# Altium integrated library Linear Technology Power Management Hot Swap Controllers.IntLib: 992 symbols (part 13 of 93)
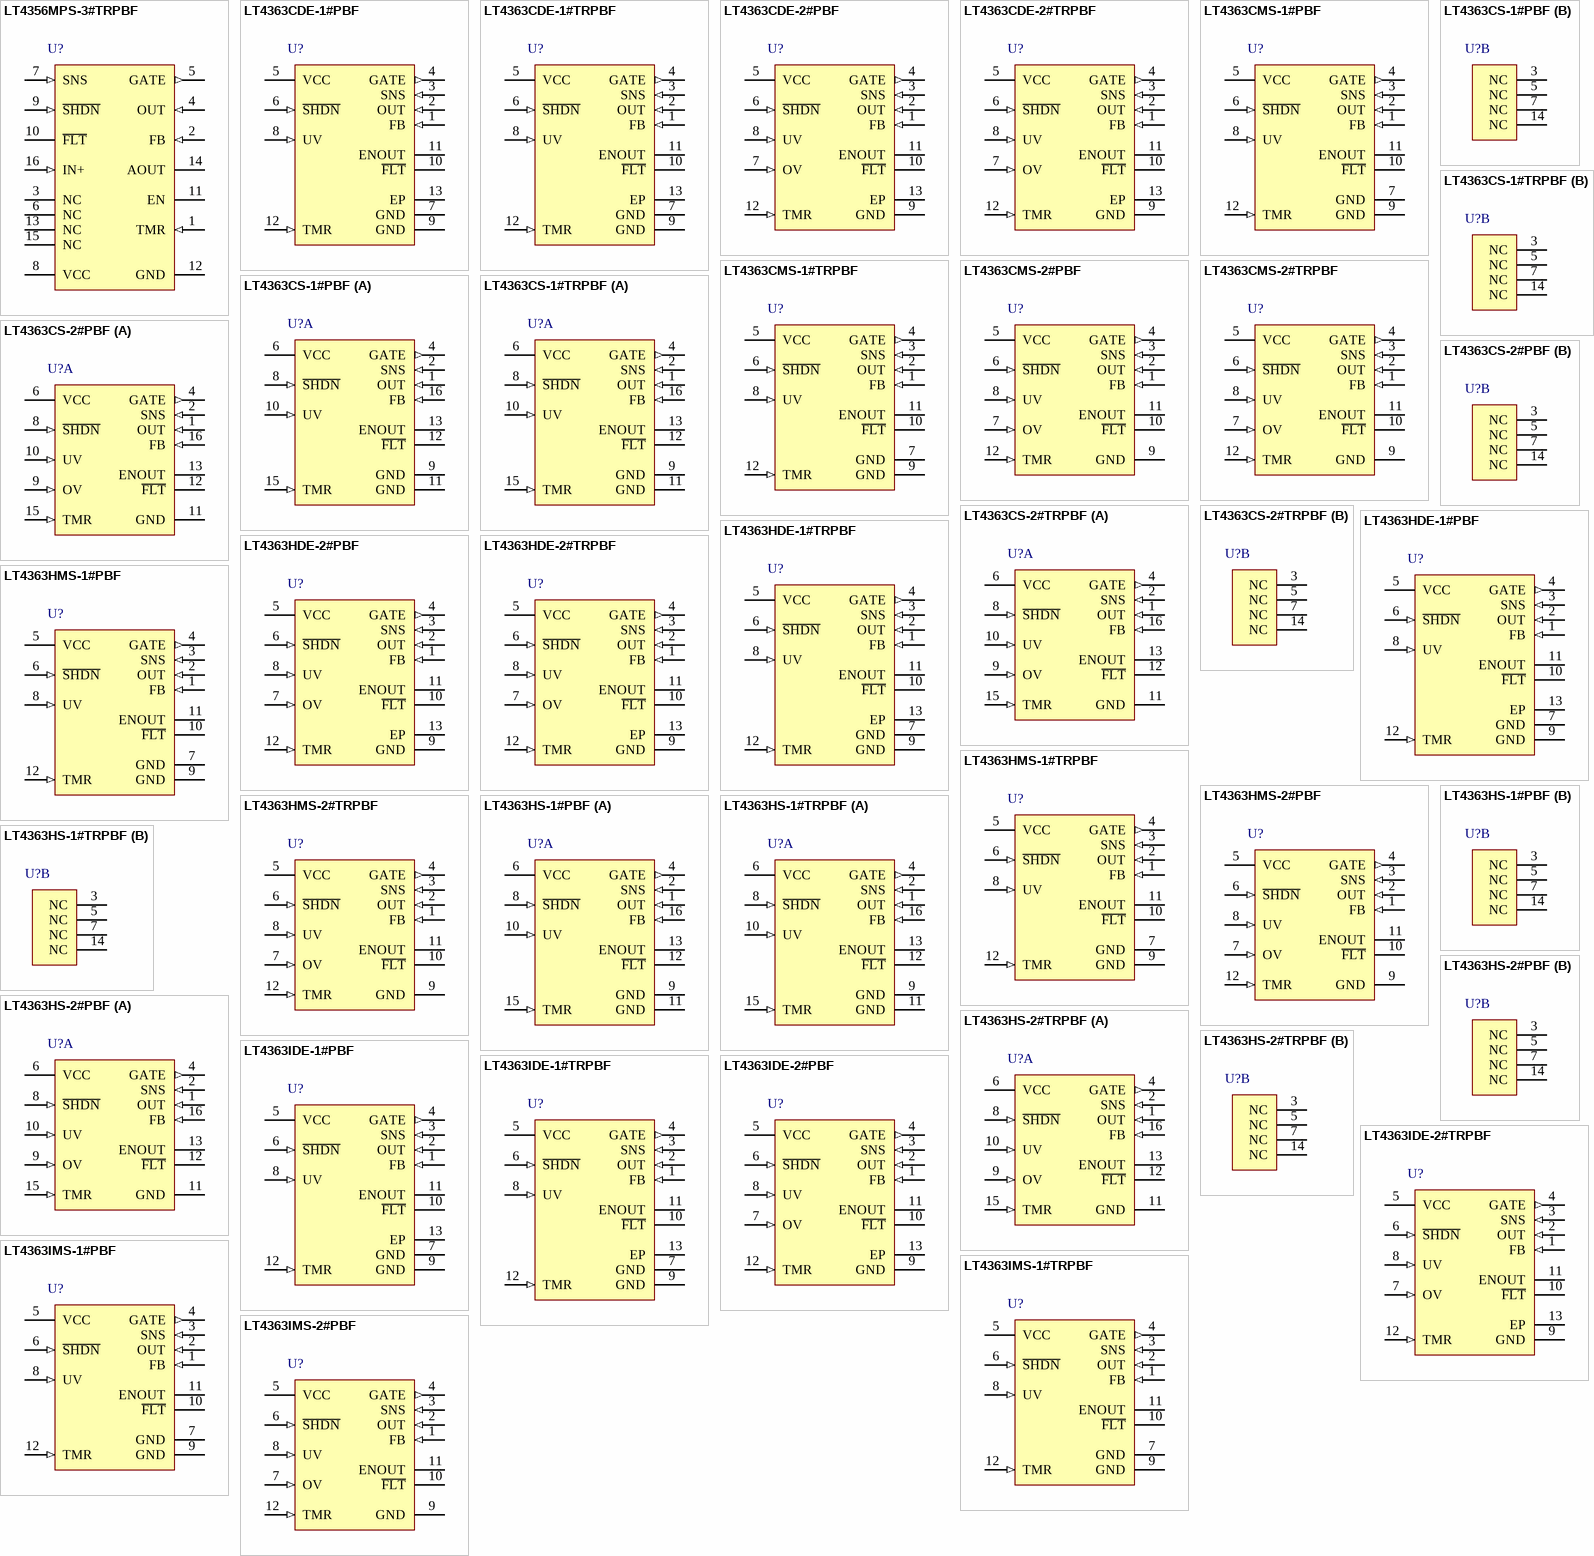
[diagram p49: symbols LT4356MPS-3#TRPBF to LT4363IMS-2#PBF]

## LT4363CMS-1#TRPBF
designator U?
High Voltage Surge Stopper with Current Limit, 4 to 80 V Vin, 12-pin SOP (MS-12), 0 to 70 degC, Pb-Free, Tape and Reel; Manufacturer: Linear Technology; PartNumber: LT4363CMS-1#TRPBF; Active Limiting: yes; Circuit Breaker Accuracy(%): 14; Circuit Breaker Threshold: 50 mV; Extended Temp: C, I, H, MP; Vin Range: 4 to 80 V; DatasheetVersion: Rev. B; PackageVersion: Rev. A, 05/2013; PackageReference: MS-12; PackageDescription: 12-Pin Plastic MSOP, Body 4.039 x 3 mm, Pitch 0.65 mm; Supplier 1: Digi-Key; Supplier Part Number 1: LT4363CMS-1#TRPBF-ND; Fast Comparator: yes; Fault: yes; Foldback: yes; Packing: Tape and Reel; RoHS: TRUE; Mounting Technology: Surface Mount; ComponentLink1Description: Manufacturer URL; ComponentLink1URL: http://www.linear.com/; ComponentLink2Description: Datasheet; ComponentLink2URL: http://cds.linear.com/docs/en/datasheet/4363fb.pdf; ComponentLink3Description: Package Specification; ComponentLink3URL: http://cds.linear.com/docs/en/packaging/05081668_A_MS12.pdf
footprint LT-MS-12_N (SOP, 12-Leads, Body 4.1x3.1mm, Pitch 0.65mm, IPC Medium Density)
footprint LT-MS-12_L (SOP, 12-Leads, Body 4.1x3.1mm, Pitch 0.65mm, IPC High Density)
footprint LT-MS-12_M (SOP, 12-Leads, Body 4.1x3.1mm, Pitch 0.65mm, IPC Low Density)
pins: 1 FB (in) "Voltage Regulator Feedback Input. Connect this pin to the center tap of the resistive divider connected between the OUT pin and ground. During an overvoltage condition, the GATE pin is controlled to maintain a 1.275V (See Datasheet)", 2 OUT (in) "Output Voltage Sense Input. This pin senses the voltage at the source of the external N-channel MOSFET. The voltage difference between VCC and OUT sets the fault timer current. When this difference drops below 0.5V, the EN (See Datasheet)", 3 SNS (in) "Current Sense Input. Connect this pin to the input of the current sense resistor. The current limit circuit controls the GATE pin to limit the sense voltage between SNS and OUT pins to 50mV. This is reduced to 25mV in a (See Datasheet)", 4 GATE (out) "N-Channel MOSFET Gate Drive Output. The GATE pin is pulled up by an internal charge pump current source to 13V above the OUT pin. A 14V protection clamp limits this voltage during faults. Both voltage and current amplifiers (See Datasheet)", 5 VCC (power) "Positive Supply Voltage Input. The positive supply input ranges from 4V to 80V for normal operation. It can also be pulled below ground by up to 60V during a reverse battery condition, without damaging the part. Shutting (See Datasheet)", 6 ~{SHDN} (in) "Shutdown Control Input. The LT4363 can be shutdown to a low current mode by pulling the S\H\D\N\ pin below the threshold of 0.4V. Pull this pin above 2.1V or disconnect it to allow the internal current source to turn the (See Datasheet)", 7 GND (power) "Device Ground.", 8 UV (in) "Undervoltage Comparator Input. When UV falls below its threshold of 1.275V, the GATE is pulled down with a 1mA current. When UV rises above 1.275V plus the hysteresis, the pull down current disappears and the GATE pin is (See Datasheet)", 9 GND (power) "Device Ground.", 10 ~{FLT} (hiz) "Open Collector Fault Output. This pin pulls low after the voltage at the TMR pin has reached the fault threshold of 1.275V. It indicates the pass transistor is about to turn off because either the supply voltage has stayed (See Datasheet)", 11 ENOUT (hiz) "Open Collector Enable Output. The ENOUT pin goes high impedance when the voltage at the OUT pin is within 0.5V of VCC and 3V above GND, indicating the external MOSFET is fully on. The state of the pin is latched until the (See Datasheet)", 12 TMR (in) "Fault Timer Input. Connect a capacitor between this pin and ground to set the times for early fault warning, fault turn-off, and cool down periods. The current charging up this pin during fault conditions depends on the (See Datasheet)"

## LT4363CMS-2#PBF
designator U?
High Voltage Surge Stopper with Current Limit, 4 to 80 V Vin, 12-pin SOP (MS-12), 0 to 70 degC, Pb-Free; Manufacturer: Linear Technology; PartNumber: LT4363CMS-2#PBF; Active Limiting: yes; Circuit Breaker Accuracy(%): 14; Circuit Breaker Threshold: 50 mV; Extended Temp: C, I, H, MP; Vin Range: 4 to 80 V; DatasheetVersion: Rev. B; PackageVersion: Rev. A, 05/2013; PackageReference: MS-12; PackageDescription: 12-Pin Plastic MSOP, Body 4.039 x 3 mm, Pitch 0.65 mm; Supplier 1: Digi-Key; Supplier Part Number 1: LT4363CMS-2#PBF-ND; Supplier 2: Farnell; Supplier Part Number 2: 2097926; Supplier 3: Newark; Supplier Part Number 3: 78T4092; Fast Comparator: yes; Fault: yes; Foldback: yes; RoHS: TRUE; Mounting Technology: Surface Mount; ComponentLink1Description: Manufacturer URL; ComponentLink1URL: http://www.linear.com/; ComponentLink2Description: Datasheet; ComponentLink2URL: http://cds.linear.com/docs/en/datasheet/4363fb.pdf; ComponentLink3Description: Package Specification; ComponentLink3URL: http://cds.linear.com/docs/en/packaging/05081668_A_MS12.pdf
footprint LT-MS-12_N (SOP, 12-Leads, Body 4.1x3.1mm, Pitch 0.65mm, IPC Medium Density)
footprint LT-MS-12_L (SOP, 12-Leads, Body 4.1x3.1mm, Pitch 0.65mm, IPC High Density)
footprint LT-MS-12_M (SOP, 12-Leads, Body 4.1x3.1mm, Pitch 0.65mm, IPC Low Density)
pins: 1 FB (in) "Voltage Regulator Feedback Input. Connect this pin to the center tap of the resistive divider connected between the OUT pin and ground. During an overvoltage condition, the GATE pin is controlled to maintain a 1.275V (See Datasheet)", 2 OUT (in) "Output Voltage Sense Input. This pin senses the voltage at the source of the external N-channel MOSFET. The voltage difference between VCC and OUT sets the fault timer current. When this difference drops below 0.5V, the EN (See Datasheet)", 3 SNS (in) "Current Sense Input. Connect this pin to the input of the current sense resistor. The current limit circuit controls the GATE pin to limit the sense voltage between SNS and OUT pins to 50mV. This is reduced to 25mV in a (See Datasheet)", 4 GATE (out) "N-Channel MOSFET Gate Drive Output. The GATE pin is pulled up by an internal charge pump current source to 13V above the OUT pin. A 14V protection clamp limits this voltage during faults. Both voltage and current amplifiers (See Datasheet)", 5 VCC (power) "Positive Supply Voltage Input. The positive supply input ranges from 4V to 80V for normal operation. It can also be pulled below ground by up to 60V during a reverse battery condition, without damaging the part. Shutting (See Datasheet)", 6 ~{SHDN} (in) "Shutdown Control Input. The LT4363 can be shutdown to a low current mode by pulling the SHDN pin below the threshold of 0.4V. Pull this pin above 2.1V or disconnect it to allow the internal current source to turn the part (See Datasheet)", 7 OV (in) "Overvoltage Comparator Input. When OV is above its threshold of 1.275V, the fault retry function is inhibited even when the TMR pin voltage has reached its retry threshold. As soon as the voltage at OV pin falls below its (See Datasheet)", 8 UV (in) "Undervoltage Comparator Input. When UV falls below its threshold of 1.275V, the GATE is pulled down with a 1mA current. When UV rises above 1.275V plus the hysteresis, the pull down current disappears and the GATE pin is (See Datasheet)", 9 GND (power) "Device Ground.", 10 ~{FLT} (hiz) "Open Collector Fault Output. This pin pulls low after the voltage at the TMR pin has reached the fault threshold of 1.275V. It indicates the pass transistor is about to turn off because either the supply voltage has stayed (See Datasheet)", 11 ENOUT (hiz) "Open Collector Enable Output. The ENOUT pin goes high impedance when the voltage at the OUT pin is within 0.5V of VCC and 3V above GND, indicating the external MOSFET is fully on. The state of the pin is latched until the (See Datasheet)", 12 TMR (in) "Fault Timer Input. Connect a capacitor between this pin and ground to set the times for early fault warning, fault turn-off, and cool down periods. The current charging up this pin during fault conditions depends on the (See Datasheet)"

## LT4363CMS-2#TRPBF
designator U?
High Voltage Surge Stopper with Current Limit, 4 to 80 V Vin, 12-pin SOP (MS-12), 0 to 70 degC, Pb-Free, Tape and Reel; Manufacturer: Linear Technology; PartNumber: LT4363CMS-2#TRPBF; Active Limiting: yes; Circuit Breaker Accuracy(%): 14; Circuit Breaker Threshold: 50 mV; Extended Temp: C, I, H, MP; Vin Range: 4 to 80 V; DatasheetVersion: Rev. B; PackageVersion: Rev. A, 05/2013; PackageReference: MS-12; PackageDescription: 12-Pin Plastic MSOP, Body 4.039 x 3 mm, Pitch 0.65 mm; Supplier 1: Digi-Key; Supplier Part Number 1: LT4363CMS-2#TRPBF-ND; Fast Comparator: yes; Fault: yes; Foldback: yes; Packing: Tape and Reel; RoHS: TRUE; Mounting Technology: Surface Mount; ComponentLink1Description: Manufacturer URL; ComponentLink1URL: http://www.linear.com/; ComponentLink2Description: Datasheet; ComponentLink2URL: http://cds.linear.com/docs/en/datasheet/4363fb.pdf; ComponentLink3Description: Package Specification; ComponentLink3URL: http://cds.linear.com/docs/en/packaging/05081668_A_MS12.pdf
footprint LT-MS-12_N (SOP, 12-Leads, Body 4.1x3.1mm, Pitch 0.65mm, IPC Medium Density)
footprint LT-MS-12_L (SOP, 12-Leads, Body 4.1x3.1mm, Pitch 0.65mm, IPC High Density)
footprint LT-MS-12_M (SOP, 12-Leads, Body 4.1x3.1mm, Pitch 0.65mm, IPC Low Density)
pins: 1 FB (in) "Voltage Regulator Feedback Input. Connect this pin to the center tap of the resistive divider connected between the OUT pin and ground. During an overvoltage condition, the GATE pin is controlled to maintain a 1.275V (See Datasheet)", 2 OUT (in) "Output Voltage Sense Input. This pin senses the voltage at the source of the external N-channel MOSFET. The voltage difference between VCC and OUT sets the fault timer current. When this difference drops below 0.5V, the EN (See Datasheet)", 3 SNS (in) "Current Sense Input. Connect this pin to the input of the current sense resistor. The current limit circuit controls the GATE pin to limit the sense voltage between SNS and OUT pins to 50mV. This is reduced to 25mV in a (See Datasheet)", 4 GATE (out) "N-Channel MOSFET Gate Drive Output. The GATE pin is pulled up by an internal charge pump current source to 13V above the OUT pin. A 14V protection clamp limits this voltage during faults. Both voltage and current amplifiers (See Datasheet)", 5 VCC (power) "Positive Supply Voltage Input. The positive supply input ranges from 4V to 80V for normal operation. It can also be pulled below ground by up to 60V during a reverse battery condition, without damaging the part. Shutting (See Datasheet)", 6 ~{SHDN} (in) "Shutdown Control Input. The LT4363 can be shutdown to a low current mode by pulling the SHDN pin below the threshold of 0.4V. Pull this pin above 2.1V or disconnect it to allow the internal current source to turn the part (See Datasheet)", 7 OV (in) "Overvoltage Comparator Input. When OV is above its threshold of 1.275V, the fault retry function is inhibited even when the TMR pin voltage has reached its retry threshold. As soon as the voltage at OV pin falls below its (See Datasheet)", 8 UV (in) "Undervoltage Comparator Input. When UV falls below its threshold of 1.275V, the GATE is pulled down with a 1mA current. When UV rises above 1.275V plus the hysteresis, the pull down current disappears and the GATE pin is (See Datasheet)", 9 GND (power) "Device Ground.", 10 ~{FLT} (hiz) "Open Collector Fault Output. This pin pulls low after the voltage at the TMR pin has reached the fault threshold of 1.275V. It indicates the pass transistor is about to turn off because either the supply voltage has stayed (See Datasheet)", 11 ENOUT (hiz) "Open Collector Enable Output. The ENOUT pin goes high impedance when the voltage at the OUT pin is within 0.5V of VCC and 3V above GND, indicating the external MOSFET is fully on. The state of the pin is latched until the (See Datasheet)", 12 TMR (in) "Fault Timer Input. Connect a capacitor between this pin and ground to set the times for early fault warning, fault turn-off, and cool down periods. The current charging up this pin during fault conditions depends on the (See Datasheet)"

## LT4363CS-1#PBF
designator U?
High Voltage Surge Stopper with Current Limit, 4 to 80 V Vin, 16-pin SOP (S-16), 0 to 70 degC, Pb-Free; Manufacturer: Linear Technology; PartNumber: LT4363CS-1#PBF; Active Limiting: yes; Circuit Breaker Accuracy(%): 14; Circuit Breaker Threshold: 50 mV; Extended Temp: C, I, H, MP; Vin Range: 4 to 80 V; DatasheetVersion: Rev. B; PackageVersion: Rev. G, 05/2012; PackageReference: S-16; PackageDescription: 16-Pin Plastic Small Outline, Body 9.9 x 3.9 mm, Pitch 1.27 mm; Supplier 1: Digi-Key; Supplier Part Number 1: LT4363CS-1#PBF-ND; Supplier 2: Farnell; Supplier Part Number 2: 2097921; Fast Comparator: yes; Fault: yes; Foldback: yes; RoHS: TRUE; Mounting Technology: Surface Mount; ComponentLink1Description: Manufacturer URL; ComponentLink1URL: http://www.linear.com/; ComponentLink2Description: Datasheet; ComponentLink2URL: http://cds.linear.com/docs/en/datasheet/4363fb.pdf; ComponentLink3Description: Package Specification; ComponentLink3URL: http://cds.linear.com/docs/en/packaging/S16%2005-08-1610%20Rev%20G.pdf
footprint LT-S-16_N (SOP, 16-Leads, Body 10x4mm, Pitch 1.27mm, IPC Medium Density)
footprint LT-S-16_L (SOP, 16-Leads, Body 10x4mm, Pitch 1.27mm, IPC High Density)
footprint LT-S-16_M (SOP, 16-Leads, Body 10x4mm, Pitch 1.27mm, IPC Low Density)
part A pins: 1 OUT (in) "Output Voltage Sense Input. This pin senses the voltage at the source of the external N-channel MOSFET. The voltage difference between VCC and OUT sets the fault timer current. When this difference drops below 0.5V, the EN (See Datasheet)", 2 SNS (in) "Current Sense Input. Connect this pin to the input of the current sense resistor. The current limit circuit controls the GATE pin to limit the sense voltage between SNS and OUT pins to 50mV. This is reduced to 25mV in a (See Datasheet)", 4 GATE (out) "N-Channel MOSFET Gate Drive Output. The GATE pin is pulled up by an internal charge pump current source to 13V above the OUT pin. A 14V protection clamp limits this voltage during faults. Both voltage and current amplifiers (See Datasheet)", 6 VCC (power) "Positive Supply Voltage Input. The positive supply input ranges from 4V to 80V for normal operation. It can also be pulled below ground by up to 60V during a reverse battery condition, without damaging the part. Shutting (See Datasheet)", 8 ~{SHDN} (in) "Shutdown Control Input. The LT4363 can be shutdown to a low current mode by pulling the S\H\D\N\ pin below the threshold of 0.4V. Pull this pin above 2.1V or disconnect it to allow the internal current source to turn the (See Datasheet)", 9 GND (power) "Device Ground.", 10 UV (in) "Undervoltage Comparator Input. When UV falls below its threshold of 1.275V, the GATE is pulled down with a 1mA current. When UV rises above 1.275V plus the hysteresis, the pull down current disappears and the GATE pin is (See Datasheet)", 11 GND (power) "Device Ground.", 12 ~{FLT} (hiz) "Open Collector Fault Output. This pin pulls low after the voltage at the TMR pin has reached the fault threshold of 1.275V. It indicates the pass transistor is about to turn off because either the supply voltage has stayed (See Datasheet)", 13 ENOUT (hiz) "Open Collector Enable Output. The ENOUT pin goes high impedance when the voltage at the OUT pin is within 0.5V of VCC and 3V above GND, indicating the external MOSFET is fully on. The state of the pin is latched until the (See Datasheet)", 15 TMR (in) "Fault Timer Input. Connect a capacitor between this pin and ground to set the times for early fault warning, fault turn-off, and cool down periods. The current charging up this pin during fault conditions depends on the (See Datasheet)", 16 FB (in) "Voltage Regulator Feedback Input. Connect this pin to the center tap of the resistive divider connected between the OUT pin and ground. During an overvoltage condition, the GATE pin is controlled to maintain a 1.275V (See Datasheet)"
part B pins: 3 NC, 5 NC, 7 NC, 14 NC

## LT4363CS-1#TRPBF
designator U?
High Voltage Surge Stopper with Current Limit, 4 to 80 V Vin, 16-pin SOP (S-16), 0 to 70 degC, Pb-Free, Tape and Reel; Manufacturer: Linear Technology; PartNumber: LT4363CS-1#TRPBF; Active Limiting: yes; Circuit Breaker Accuracy(%): 14; Circuit Breaker Threshold: 50 mV; Extended Temp: C, I, H, MP; Vin Range: 4 to 80 V; DatasheetVersion: Rev. B; PackageVersion: Rev. G, 05/2012; PackageReference: S-16; PackageDescription: 16-Pin Plastic Small Outline, Body 9.9 x 3.9 mm, Pitch 1.27 mm; Supplier 1: Digi-Key; Supplier Part Number 1: LT4363CS-1#TRPBF-ND; Fast Comparator: yes; Fault: yes; Foldback: yes; Packing: Tape and Reel; RoHS: TRUE; Mounting Technology: Surface Mount; ComponentLink1Description: Manufacturer URL; ComponentLink1URL: http://www.linear.com/; ComponentLink2Description: Datasheet; ComponentLink2URL: http://cds.linear.com/docs/en/datasheet/4363fb.pdf; ComponentLink3Description: Package Specification; ComponentLink3URL: http://cds.linear.com/docs/en/packaging/S16%2005-08-1610%20Rev%20G.pdf
footprint LT-S-16_N (SOP, 16-Leads, Body 10x4mm, Pitch 1.27mm, IPC Medium Density)
footprint LT-S-16_L (SOP, 16-Leads, Body 10x4mm, Pitch 1.27mm, IPC High Density)
footprint LT-S-16_M (SOP, 16-Leads, Body 10x4mm, Pitch 1.27mm, IPC Low Density)
part A pins: 1 OUT (in) "Output Voltage Sense Input. This pin senses the voltage at the source of the external N-channel MOSFET. The voltage difference between VCC and OUT sets the fault timer current. When this difference drops below 0.5V, the EN (See Datasheet)", 2 SNS (in) "Current Sense Input. Connect this pin to the input of the current sense resistor. The current limit circuit controls the GATE pin to limit the sense voltage between SNS and OUT pins to 50mV. This is reduced to 25mV in a (See Datasheet)", 4 GATE (out) "N-Channel MOSFET Gate Drive Output. The GATE pin is pulled up by an internal charge pump current source to 13V above the OUT pin. A 14V protection clamp limits this voltage during faults. Both voltage and current amplifiers (See Datasheet)", 6 VCC (power) "Positive Supply Voltage Input. The positive supply input ranges from 4V to 80V for normal operation. It can also be pulled below ground by up to 60V during a reverse battery condition, without damaging the part. Shutting (See Datasheet)", 8 ~{SHDN} (in) "Shutdown Control Input. The LT4363 can be shutdown to a low current mode by pulling the S\H\D\N\ pin below the threshold of 0.4V. Pull this pin above 2.1V or disconnect it to allow the internal current source to turn the (See Datasheet)", 9 GND (power) "Device Ground.", 10 UV (in) "Undervoltage Comparator Input. When UV falls below its threshold of 1.275V, the GATE is pulled down with a 1mA current. When UV rises above 1.275V plus the hysteresis, the pull down current disappears and the GATE pin is (See Datasheet)", 11 GND (power) "Device Ground.", 12 ~{FLT} (hiz) "Open Collector Fault Output. This pin pulls low after the voltage at the TMR pin has reached the fault threshold of 1.275V. It indicates the pass transistor is about to turn off because either the supply voltage has stayed (See Datasheet)", 13 ENOUT (hiz) "Open Collector Enable Output. The ENOUT pin goes high impedance when the voltage at the OUT pin is within 0.5V of VCC and 3V above GND, indicating the external MOSFET is fully on. The state of the pin is latched until the (See Datasheet)", 15 TMR (in) "Fault Timer Input. Connect a capacitor between this pin and ground to set the times for early fault warning, fault turn-off, and cool down periods. The current charging up this pin during fault conditions depends on the (See Datasheet)", 16 FB (in) "Voltage Regulator Feedback Input. Connect this pin to the center tap of the resistive divider connected between the OUT pin and ground. During an overvoltage condition, the GATE pin is controlled to maintain a 1.275V (See Datasheet)"
part B pins: 3 NC, 5 NC, 7 NC, 14 NC

## LT4363CS-2#PBF
designator U?
High Voltage Surge Stopper with Current Limit, 4 to 80 V Vin, 16-pin SOP (S-16), 0 to 70 degC, Pb-Free; Manufacturer: Linear Technology; PartNumber: LT4363CS-2#PBF; Active Limiting: yes; Circuit Breaker Accuracy(%): 14; Circuit Breaker Threshold: 50 mV; Extended Temp: C, I, H, MP; Vin Range: 4 to 80 V; DatasheetVersion: Rev. B; PackageVersion: Rev. G, 05/2012; PackageReference: S-16; PackageDescription: 16-Pin Plastic Small Outline, Body 9.9 x 3.9 mm, Pitch 1.27 mm; Supplier 1: Digi-Key; Supplier Part Number 1: LT4363CS-2#PBF-ND; Supplier 2: Farnell; Supplier Part Number 2: 2097927; Supplier 3: Newark; Supplier Part Number 3: 78T4096; Fast Comparator: yes; Fault: yes; Foldback: yes; RoHS: TRUE; Mounting Technology: Surface Mount; ComponentLink1Description: Manufacturer URL; ComponentLink1URL: http://www.linear.com/; ComponentLink2Description: Datasheet; ComponentLink2URL: http://cds.linear.com/docs/en/datasheet/4363fb.pdf; ComponentLink3Description: Package Specification; ComponentLink3URL: http://cds.linear.com/docs/en/packaging/S16%2005-08-1610%20Rev%20G.pdf
footprint LT-S-16_N (SOP, 16-Leads, Body 10x4mm, Pitch 1.27mm, IPC Medium Density)
footprint LT-S-16_L (SOP, 16-Leads, Body 10x4mm, Pitch 1.27mm, IPC High Density)
footprint LT-S-16_M (SOP, 16-Leads, Body 10x4mm, Pitch 1.27mm, IPC Low Density)
part A pins: 1 OUT (in) "Output Voltage Sense Input. This pin senses the voltage at the source of the external N-channel MOSFET. The voltage difference between VCC and OUT sets the fault timer current. When this difference drops below 0.5V, the EN (See Datasheet)", 2 SNS (in) "Current Sense Input. Connect this pin to the input of the current sense resistor. The current limit circuit controls the GATE pin to limit the sense voltage between SNS and OUT pins to 50mV. This is reduced to 25mV in a (See Datasheet)", 4 GATE (out) "N-Channel MOSFET Gate Drive Output. The GATE pin is pulled up by an internal charge pump current source to 13V above the OUT pin. A 14V protection clamp limits this voltage during faults. Both voltage and current amplifiers (See Datasheet)", 6 VCC (power) "Positive Supply Voltage Input. The positive supply input ranges from 4V to 80V for normal operation. It can also be pulled below ground by up to 60V during a reverse battery condition, without damaging the part. Shutting (See Datasheet)", 8 ~{SHDN} (in) "Shutdown Control Input. The LT4363 can be shutdown to a low current mode by pulling the S\H\D\N\ pin below the threshold of 0.4V. Pull this pin above 2.1V or disconnect it to allow the internal current source to turn the (See Datasheet)", 9 OV (in) "Overvoltage Comparator Input. When OV is above its threshold of 1.275V, the fault retry function is inhibited even when the TMR pin voltage has reached its retry threshold. As soon as the voltage at OV pin falls below its (See Datasheet)", 10 UV (in) "Undervoltage Comparator Input. When UV falls below its threshold of 1.275V, the GATE is pulled down with a 1mA current. When UV rises above 1.275V plus the hysteresis, the pull down current disappears and the GATE pin is (See Datasheet)", 11 GND (power) "Device Ground.", 12 ~{FLT} (hiz) "Open Collector Fault Output. This pin pulls low after the voltage at the TMR pin has reached the fault threshold of 1.275V. It indicates the pass transistor is about to turn off because either the supply voltage has stayed (See Datasheet)", 13 ENOUT (hiz) "Open Collector Enable Output. The ENOUT pin goes high impedance when the voltage at the OUT pin is within 0.5V of VCC and 3V above GND, indicating the external MOSFET is fully on. The state of the pin is latched until the (See Datasheet)", 15 TMR (in) "Fault Timer Input. Connect a capacitor between this pin and ground to set the times for early fault warning, fault turn-off, and cool down periods. The current charging up this pin during fault conditions depends on the (See Datasheet)", 16 FB (in) "Voltage Regulator Feedback Input. Connect this pin to the center tap of the resistive divider connected between the OUT pin and ground. During an overvoltage condition, the GATE pin is controlled to maintain a 1.275V (See Datasheet)"
part B pins: 3 NC, 5 NC, 7 NC, 14 NC

## LT4363CS-2#TRPBF
designator U?
High Voltage Surge Stopper with Current Limit, 4 to 80 V Vin, 16-pin SOP (S-16), 0 to 70 degC, Pb-Free, Tape and Reel; Manufacturer: Linear Technology; PartNumber: LT4363CS-2#TRPBF; Active Limiting: yes; Circuit Breaker Accuracy(%): 14; Circuit Breaker Threshold: 50 mV; Extended Temp: C, I, H, MP; Vin Range: 4 to 80 V; DatasheetVersion: Rev. B; PackageVersion: Rev. G, 05/2012; PackageReference: S-16; PackageDescription: 16-Pin Plastic Small Outline, Body 9.9 x 3.9 mm, Pitch 1.27 mm; Supplier 1: Digi-Key; Supplier Part Number 1: LT4363CS-2#TRPBF-ND; Fast Comparator: yes; Fault: yes; Foldback: yes; Packing: Tape and Reel; RoHS: TRUE; Mounting Technology: Surface Mount; ComponentLink1Description: Manufacturer URL; ComponentLink1URL: http://www.linear.com/; ComponentLink2Description: Datasheet; ComponentLink2URL: http://cds.linear.com/docs/en/datasheet/4363fb.pdf; ComponentLink3Description: Package Specification; ComponentLink3URL: http://cds.linear.com/docs/en/packaging/S16%2005-08-1610%20Rev%20G.pdf
footprint LT-S-16_N (SOP, 16-Leads, Body 10x4mm, Pitch 1.27mm, IPC Medium Density)
footprint LT-S-16_L (SOP, 16-Leads, Body 10x4mm, Pitch 1.27mm, IPC High Density)
footprint LT-S-16_M (SOP, 16-Leads, Body 10x4mm, Pitch 1.27mm, IPC Low Density)
part A pins: 1 OUT (in) "Output Voltage Sense Input. This pin senses the voltage at the source of the external N-channel MOSFET. The voltage difference between VCC and OUT sets the fault timer current. When this difference drops below 0.5V, the EN (See Datasheet)", 2 SNS (in) "Current Sense Input. Connect this pin to the input of the current sense resistor. The current limit circuit controls the GATE pin to limit the sense voltage between SNS and OUT pins to 50mV. This is reduced to 25mV in a (See Datasheet)", 4 GATE (out) "N-Channel MOSFET Gate Drive Output. The GATE pin is pulled up by an internal charge pump current source to 13V above the OUT pin. A 14V protection clamp limits this voltage during faults. Both voltage and current amplifiers (See Datasheet)", 6 VCC (power) "Positive Supply Voltage Input. The positive supply input ranges from 4V to 80V for normal operation. It can also be pulled below ground by up to 60V during a reverse battery condition, without damaging the part. Shutting (See Datasheet)", 8 ~{SHDN} (in) "Shutdown Control Input. The LT4363 can be shutdown to a low current mode by pulling the S\H\D\N\ pin below the threshold of 0.4V. Pull this pin above 2.1V or disconnect it to allow the internal current source to turn the (See Datasheet)", 9 OV (in) "Overvoltage Comparator Input. When OV is above its threshold of 1.275V, the fault retry function is inhibited even when the TMR pin voltage has reached its retry threshold. As soon as the voltage at OV pin falls below its (See Datasheet)", 10 UV (in) "Undervoltage Comparator Input. When UV falls below its threshold of 1.275V, the GATE is pulled down with a 1mA current. When UV rises above 1.275V plus the hysteresis, the pull down current disappears and the GATE pin is (See Datasheet)", 11 GND (power) "Device Ground.", 12 ~{FLT} (hiz) "Open Collector Fault Output. This pin pulls low after the voltage at the TMR pin has reached the fault threshold of 1.275V. It indicates the pass transistor is about to turn off because either the supply voltage has stayed (See Datasheet)", 13 ENOUT (hiz) "Open Collector Enable Output. The ENOUT pin goes high impedance when the voltage at the OUT pin is within 0.5V of VCC and 3V above GND, indicating the external MOSFET is fully on. The state of the pin is latched until the (See Datasheet)", 15 TMR (in) "Fault Timer Input. Connect a capacitor between this pin and ground to set the times for early fault warning, fault turn-off, and cool down periods. The current charging up this pin during fault conditions depends on the (See Datasheet)", 16 FB (in) "Voltage Regulator Feedback Input. Connect this pin to the center tap of the resistive divider connected between the OUT pin and ground. During an overvoltage condition, the GATE pin is controlled to maintain a 1.275V (See Datasheet)"
part B pins: 3 NC, 5 NC, 7 NC, 14 NC

## LT4363HDE-1#PBF
designator U?
High Voltage Surge Stopper with Current Limit, 4 to 80 V Vin, 12-pin SON (DE-UE-12), -40 to 125 degC, Pb-Free; Manufacturer: Linear Technology; PartNumber: LT4363HDE-1#PBF; Active Limiting: yes; Circuit Breaker Accuracy(%): 14; Circuit Breaker Threshold: 50 mV; Extended Temp: C, I, H, MP; Vin Range: 4 to 80 V; DatasheetVersion: Rev. B; PackageVersion: Rev. D, 06/2010; PackageReference: DE-UE-12; PackageDescription: 12-Pin Plastic DFN, Body 4 x 3 mm, Pitch 0.5 mm; Supplier 1: Digi-Key; Supplier Part Number 1: LT4363HDE-1#PBF-ND; Supplier 2: Newark; Supplier Part Number 2: 94W8466; Fast Comparator: yes; Fault: yes; Foldback: yes; RoHS: TRUE; Mounting Technology: Surface Mount; Code_JEDEC: MO-229; ComponentLink1Description: Manufacturer URL; ComponentLink1URL: http://www.linear.com/; ComponentLink2Description: Datasheet; ComponentLink2URL: http://cds.linear.com/docs/en/datasheet/4363fb.pdf; ComponentLink3Description: Package Specification; ComponentLink3URL: http://cds.linear.com/docs/en/packaging/DFN_12_05-08-1695.pdf
footprint LT-DE-UE-12_V (SON, 12-Leads, Body 4x3mm, Pitch 0.5mm, Thermal Pad 3.3x1.7mm)
pins: 1 FB (in) "Voltage Regulator Feedback Input. Connect this pin to the center tap of the resistive divider connected between the OUT pin and ground. During an overvoltage condition, the GATE pin is controlled to maintain a 1.275V (See Datasheet)", 2 OUT (in) "Output Voltage Sense Input. This pin senses the voltage at the source of the external N-channel MOSFET. The voltage difference between VCC and OUT sets the fault timer current. When this difference drops below 0.5V, the EN (See Datasheet)", 3 SNS (in) "Current Sense Input. Connect this pin to the input of the current sense resistor. The current limit circuit controls the GATE pin to limit the sense voltage between SNS and OUT pins to 50mV. This is reduced to 25mV in a (See Datasheet)", 4 GATE (out) "N-Channel MOSFET Gate Drive Output. The GATE pin is pulled up by an internal charge pump current source to 13V above the OUT pin. A 14V protection clamp limits this voltage during faults. Both voltage and current amplifiers (See Datasheet)", 5 VCC (power) "Positive Supply Voltage Input. The positive supply input ranges from 4V to 80V for normal operation. It can also be pulled below ground by up to 60V during a reverse battery condition, without damaging the part. Shutting (See Datasheet)", 6 ~{SHDN} (in) "Shutdown Control Input. The LT4363 can be shutdown to a low current mode by pulling the SHDN pin below the threshold of 0.4V. Pull this pin above 2.1V or disconnect it to allow the internal current source to turn the part (See Datasheet)", 7 GND (power) "Device Ground.", 8 UV (in) "Undervoltage Comparator Input. When UV falls below its threshold of 1.275V, the GATE is pulled down with a 1mA current. When UV rises above 1.275V plus the hysteresis, the pull down current disappears and the GATE pin is (See Datasheet)", 9 GND (power) "Device Ground.", 10 ~{FLT} (hiz) "Open Collector Fault Output. This pin pulls low after the voltage at the TMR pin has reached the fault threshold of 1.275V. It indicates the pass transistor is about to turn off because either the supply voltage has stayed (See Datasheet)", 11 ENOUT (hiz) "Open Collector Enable Output. The ENOUT pin goes high impedance when the voltage at the OUT pin is within 0.5V of VCC and 3V above GND, indicating the external MOSFET is fully on. The state of the pin is latched until the (See Datasheet)", 12 TMR (in) "Fault Timer Input. Connect a capacitor between this pin and ground to set the times for early fault warning, fault turn-off, and cool down periods. The current charging up this pin during fault conditions depends on the (See Datasheet)", 13 EP (power) "Exposed pad may be left open or connected to device ground (GND)."

## LT4363HDE-1#TRPBF
designator U?
High Voltage Surge Stopper with Current Limit, 4 to 80 V Vin, 12-pin SON (DE-UE-12), -40 to 125 degC, Pb-Free, Tape and Reel; Manufacturer: Linear Technology; PartNumber: LT4363HDE-1#TRPBF; Active Limiting: yes; Circuit Breaker Accuracy(%): 14; Circuit Breaker Threshold: 50 mV; Extended Temp: C, I, H, MP; Vin Range: 4 to 80 V; DatasheetVersion: Rev. B; PackageVersion: Rev. D, 06/2010; PackageReference: DE-UE-12; PackageDescription: 12-Pin Plastic DFN, Body 4 x 3 mm, Pitch 0.5 mm; Supplier 1: Digi-Key; Supplier Part Number 1: LT4363HDE-1#TRPBF-ND; Supplier 2: Newark; Supplier Part Number 2: 94W8467; Fast Comparator: yes; Fault: yes; Foldback: yes; Packing: Tape and Reel; RoHS: TRUE; Mounting Technology: Surface Mount; Code_JEDEC: MO-229; ComponentLink1Description: Manufacturer URL; ComponentLink1URL: http://www.linear.com/; ComponentLink2Description: Datasheet; ComponentLink2URL: http://cds.linear.com/docs/en/datasheet/4363fb.pdf; ComponentLink3Description: Package Specification; ComponentLink3URL: http://cds.linear.com/docs/en/packaging/DFN_12_05-08-1695.pdf
footprint LT-DE-UE-12_V (SON, 12-Leads, Body 4x3mm, Pitch 0.5mm, Thermal Pad 3.3x1.7mm)
pins: 1 FB (in) "Voltage Regulator Feedback Input. Connect this pin to the center tap of the resistive divider connected between the OUT pin and ground. During an overvoltage condition, the GATE pin is controlled to maintain a 1.275V (See Datasheet)", 2 OUT (in) "Output Voltage Sense Input. This pin senses the voltage at the source of the external N-channel MOSFET. The voltage difference between VCC and OUT sets the fault timer current. When this difference drops below 0.5V, the EN (See Datasheet)", 3 SNS (in) "Current Sense Input. Connect this pin to the input of the current sense resistor. The current limit circuit controls the GATE pin to limit the sense voltage between SNS and OUT pins to 50mV. This is reduced to 25mV in a (See Datasheet)", 4 GATE (out) "N-Channel MOSFET Gate Drive Output. The GATE pin is pulled up by an internal charge pump current source to 13V above the OUT pin. A 14V protection clamp limits this voltage during faults. Both voltage and current amplifiers (See Datasheet)", 5 VCC (power) "Positive Supply Voltage Input. The positive supply input ranges from 4V to 80V for normal operation. It can also be pulled below ground by up to 60V during a reverse battery condition, without damaging the part. Shutting (See Datasheet)", 6 ~{SHDN} (in) "Shutdown Control Input. The LT4363 can be shutdown to a low current mode by pulling the SHDN pin below the threshold of 0.4V. Pull this pin above 2.1V or disconnect it to allow the internal current source to turn the part (See Datasheet)", 7 GND (power) "Device Ground.", 8 UV (in) "Undervoltage Comparator Input. When UV falls below its threshold of 1.275V, the GATE is pulled down with a 1mA current. When UV rises above 1.275V plus the hysteresis, the pull down current disappears and the GATE pin is (See Datasheet)", 9 GND (power) "Device Ground.", 10 ~{FLT} (hiz) "Open Collector Fault Output. This pin pulls low after the voltage at the TMR pin has reached the fault threshold of 1.275V. It indicates the pass transistor is about to turn off because either the supply voltage has stayed (See Datasheet)", 11 ENOUT (hiz) "Open Collector Enable Output. The ENOUT pin goes high impedance when the voltage at the OUT pin is within 0.5V of VCC and 3V above GND, indicating the external MOSFET is fully on. The state of the pin is latched until the (See Datasheet)", 12 TMR (in) "Fault Timer Input. Connect a capacitor between this pin and ground to set the times for early fault warning, fault turn-off, and cool down periods. The current charging up this pin during fault conditions depends on the (See Datasheet)", 13 EP (power) "Exposed pad may be left open or connected to device ground (GND)."

## LT4363HDE-2#PBF
designator U?
High Voltage Surge Stopper with Current Limit, 4 to 80 V Vin, 12-pin SON (DE-UE-12), -40 to 125 degC, Pb-Free; Manufacturer: Linear Technology; PartNumber: LT4363HDE-2#PBF; Active Limiting: yes; Circuit Breaker Accuracy(%): 14; Circuit Breaker Threshold: 50 mV; Extended Temp: C, I, H, MP; Vin Range: 4 to 80 V; DatasheetVersion: Rev. B; PackageVersion: Rev. D, 06/2010; PackageReference: DE-UE-12; PackageDescription: 12-Pin Plastic DFN, Body 4 x 3 mm, Pitch 0.5 mm; Supplier 1: Digi-Key; Supplier Part Number 1: LT4363HDE-2#PBF-ND; Supplier 2: Newark; Supplier Part Number 2: 94W8468; Fast Comparator: yes; Fault: yes; Foldback: yes; RoHS: TRUE; Mounting Technology: Surface Mount; Code_JEDEC: MO-229; ComponentLink1Description: Manufacturer URL; ComponentLink1URL: http://www.linear.com/; ComponentLink2Description: Datasheet; ComponentLink2URL: http://cds.linear.com/docs/en/datasheet/4363fb.pdf; ComponentLink3Description: Package Specification; ComponentLink3URL: http://cds.linear.com/docs/en/packaging/DFN_12_05-08-1695.pdf
footprint LT-DE-UE-12_V (SON, 12-Leads, Body 4x3mm, Pitch 0.5mm, Thermal Pad 3.3x1.7mm)
pins: 1 FB (in) "Voltage Regulator Feedback Input. Connect this pin to the center tap of the resistive divider connected between the OUT pin and ground. During an overvoltage condition, the GATE pin is controlled to maintain a 1.275V (See Datasheet)", 2 OUT (in) "Output Voltage Sense Input. This pin senses the voltage at the source of the external N-channel MOSFET. The voltage difference between VCC and OUT sets the fault timer current. When this difference drops below 0.5V, the EN (See Datasheet)", 3 SNS (in) "Current Sense Input. Connect this pin to the input of the current sense resistor. The current limit circuit controls the GATE pin to limit the sense voltage between SNS and OUT pins to 50mV. This is reduced to 25mV in a (See Datasheet)", 4 GATE (out) "N-Channel MOSFET Gate Drive Output. The GATE pin is pulled up by an internal charge pump current source to 13V above the OUT pin. A 14V protection clamp limits this voltage during faults. Both voltage and current amplifiers (See Datasheet)", 5 VCC (power) "Positive Supply Voltage Input. The positive supply input ranges from 4V to 80V for normal operation. It can also be pulled below ground by up to 60V during a reverse battery condition, without damaging the part. Shutting (See Datasheet)", 6 ~{SHDN} (in) "Shutdown Control Input. The LT4363 can be shutdown to a low current mode by pulling the SHDN pin below the threshold of 0.4V. Pull this pin above 2.1V or disconnect it to allow the internal current source to turn the part (See Datasheet)", 7 OV (in) "Overvoltage Comparator Input. When OV is above its threshold of 1.275V, the fault retry function is inhibited even when the TMR pin voltage has reached its retry threshold. As soon as the voltage at OV pin falls below its (See Datasheet)", 8 UV (in) "Undervoltage Comparator Input. When UV falls below its threshold of 1.275V, the GATE is pulled down with a 1mA current. When UV rises above 1.275V plus the hysteresis, the pull down current disappears and the GATE pin is (See Datasheet)", 9 GND (power) "Device Ground.", 10 ~{FLT} (hiz) "Open Collector Fault Output. This pin pulls low after the voltage at the TMR pin has reached the fault threshold of 1.275V. It indicates the pass transistor is about to turn off because either the supply voltage has stayed (See Datasheet)", 11 ENOUT (hiz) "Open Collector Enable Output. The ENOUT pin goes high impedance when the voltage at the OUT pin is within 0.5V of VCC and 3V above GND, indicating the external MOSFET is fully on. The state of the pin is latched until the (See Datasheet)", 12 TMR (in) "Fault Timer Input. Connect a capacitor between this pin and ground to set the times for early fault warning, fault turn-off, and cool down periods. The current charging up this pin during fault conditions depends on the (See Datasheet)", 13 EP (power) "Exposed pad may be left open or connected to device ground (GND)."

## LT4363HDE-2#TRPBF
designator U?
High Voltage Surge Stopper with Current Limit, 4 to 80 V Vin, 12-pin SON (DE-UE-12), -40 to 125 degC, Pb-Free, Tape and Reel; Manufacturer: Linear Technology; PartNumber: LT4363HDE-2#TRPBF; Active Limiting: yes; Circuit Breaker Accuracy(%): 14; Circuit Breaker Threshold: 50 mV; Extended Temp: C, I, H, MP; Vin Range: 4 to 80 V; DatasheetVersion: Rev. B; PackageVersion: Rev. D, 06/2010; PackageReference: DE-UE-12; PackageDescription: 12-Pin Plastic DFN, Body 4 x 3 mm, Pitch 0.5 mm; Supplier 1: Digi-Key; Supplier Part Number 1: LT4363HDE-2#TRPBF-ND; Supplier 2: Newark; Supplier Part Number 2: 94W8469; Fast Comparator: yes; Fault: yes; Foldback: yes; Packing: Tape and Reel; RoHS: TRUE; Mounting Technology: Surface Mount; Code_JEDEC: MO-229; ComponentLink1Description: Manufacturer URL; ComponentLink1URL: http://www.linear.com/; ComponentLink2Description: Datasheet; ComponentLink2URL: http://cds.linear.com/docs/en/datasheet/4363fb.pdf; ComponentLink3Description: Package Specification; ComponentLink3URL: http://cds.linear.com/docs/en/packaging/DFN_12_05-08-1695.pdf
footprint LT-DE-UE-12_V (SON, 12-Leads, Body 4x3mm, Pitch 0.5mm, Thermal Pad 3.3x1.7mm)
pins: 1 FB (in) "Voltage Regulator Feedback Input. Connect this pin to the center tap of the resistive divider connected between the OUT pin and ground. During an overvoltage condition, the GATE pin is controlled to maintain a 1.275V (See Datasheet)", 2 OUT (in) "Output Voltage Sense Input. This pin senses the voltage at the source of the external N-channel MOSFET. The voltage difference between VCC and OUT sets the fault timer current. When this difference drops below 0.5V, the EN (See Datasheet)", 3 SNS (in) "Current Sense Input. Connect this pin to the input of the current sense resistor. The current limit circuit controls the GATE pin to limit the sense voltage between SNS and OUT pins to 50mV. This is reduced to 25mV in a (See Datasheet)", 4 GATE (out) "N-Channel MOSFET Gate Drive Output. The GATE pin is pulled up by an internal charge pump current source to 13V above the OUT pin. A 14V protection clamp limits this voltage during faults. Both voltage and current amplifiers (See Datasheet)", 5 VCC (power) "Positive Supply Voltage Input. The positive supply input ranges from 4V to 80V for normal operation. It can also be pulled below ground by up to 60V during a reverse battery condition, without damaging the part. Shutting (See Datasheet)", 6 ~{SHDN} (in) "Shutdown Control Input. The LT4363 can be shutdown to a low current mode by pulling the SHDN pin below the threshold of 0.4V. Pull this pin above 2.1V or disconnect it to allow the internal current source to turn the part (See Datasheet)", 7 OV (in) "Overvoltage Comparator Input. When OV is above its threshold of 1.275V, the fault retry function is inhibited even when the TMR pin voltage has reached its retry threshold. As soon as the voltage at OV pin falls below its (See Datasheet)", 8 UV (in) "Undervoltage Comparator Input. When UV falls below its threshold of 1.275V, the GATE is pulled down with a 1mA current. When UV rises above 1.275V plus the hysteresis, the pull down current disappears and the GATE pin is (See Datasheet)", 9 GND (power) "Device Ground.", 10 ~{FLT} (hiz) "Open Collector Fault Output. This pin pulls low after the voltage at the TMR pin has reached the fault threshold of 1.275V. It indicates the pass transistor is about to turn off because either the supply voltage has stayed (See Datasheet)", 11 ENOUT (hiz) "Open Collector Enable Output. The ENOUT pin goes high impedance when the voltage at the OUT pin is within 0.5V of VCC and 3V above GND, indicating the external MOSFET is fully on. The state of the pin is latched until the (See Datasheet)", 12 TMR (in) "Fault Timer Input. Connect a capacitor between this pin and ground to set the times for early fault warning, fault turn-off, and cool down periods. The current charging up this pin during fault conditions depends on the (See Datasheet)", 13 EP (power) "Exposed pad may be left open or connected to device ground (GND)."

## LT4363HMS-1#PBF
designator U?
High Voltage Surge Stopper with Current Limit, 4 to 80 V Vin, 12-pin SOP (MS-12), -40 to 125 degC, Pb-Free; Manufacturer: Linear Technology; PartNumber: LT4363HMS-1#PBF; Active Limiting: yes; Circuit Breaker Accuracy(%): 14; Circuit Breaker Threshold: 50 mV; Extended Temp: C, I, H, MP; Vin Range: 4 to 80 V; DatasheetVersion: Rev. B; PackageVersion: Rev. A, 05/2013; PackageReference: MS-12; PackageDescription: 12-Pin Plastic MSOP, Body 4.039 x 3 mm, Pitch 0.65 mm; Supplier 1: Digi-Key; Supplier Part Number 1: LT4363HMS-1#PBF-ND; Supplier 2: Newark; Supplier Part Number 2: 94W8470; Fast Comparator: yes; Fault: yes; Foldback: yes; RoHS: TRUE; Mounting Technology: Surface Mount; ComponentLink1Description: Manufacturer URL; ComponentLink1URL: http://www.linear.com/; ComponentLink2Description: Datasheet; ComponentLink2URL: http://cds.linear.com/docs/en/datasheet/4363fb.pdf; ComponentLink3Description: Package Specification; ComponentLink3URL: http://cds.linear.com/docs/en/packaging/05081668_A_MS12.pdf
footprint LT-MS-12_N (SOP, 12-Leads, Body 4.1x3.1mm, Pitch 0.65mm, IPC Medium Density)
footprint LT-MS-12_L (SOP, 12-Leads, Body 4.1x3.1mm, Pitch 0.65mm, IPC High Density)
footprint LT-MS-12_M (SOP, 12-Leads, Body 4.1x3.1mm, Pitch 0.65mm, IPC Low Density)
pins: 1 FB (in) "Voltage Regulator Feedback Input. Connect this pin to the center tap of the resistive divider connected between the OUT pin and ground. During an overvoltage condition, the GATE pin is controlled to maintain a 1.275V (See Datasheet)", 2 OUT (in) "Output Voltage Sense Input. This pin senses the voltage at the source of the external N-channel MOSFET. The voltage difference between VCC and OUT sets the fault timer current. When this difference drops below 0.5V, the EN (See Datasheet)", 3 SNS (in) "Current Sense Input. Connect this pin to the input of the current sense resistor. The current limit circuit controls the GATE pin to limit the sense voltage between SNS and OUT pins to 50mV. This is reduced to 25mV in a (See Datasheet)", 4 GATE (out) "N-Channel MOSFET Gate Drive Output. The GATE pin is pulled up by an internal charge pump current source to 13V above the OUT pin. A 14V protection clamp limits this voltage during faults. Both voltage and current amplifiers (See Datasheet)", 5 VCC (power) "Positive Supply Voltage Input. The positive supply input ranges from 4V to 80V for normal operation. It can also be pulled below ground by up to 60V during a reverse battery condition, without damaging the part. Shutting (See Datasheet)", 6 ~{SHDN} (in) "Shutdown Control Input. The LT4363 can be shutdown to a low current mode by pulling the S\H\D\N\ pin below the threshold of 0.4V. Pull this pin above 2.1V or disconnect it to allow the internal current source to turn the (See Datasheet)", 7 GND (power) "Device Ground.", 8 UV (in) "Undervoltage Comparator Input. When UV falls below its threshold of 1.275V, the GATE is pulled down with a 1mA current. When UV rises above 1.275V plus the hysteresis, the pull down current disappears and the GATE pin is (See Datasheet)", 9 GND (power) "Device Ground.", 10 ~{FLT} (hiz) "Open Collector Fault Output. This pin pulls low after the voltage at the TMR pin has reached the fault threshold of 1.275V. It indicates the pass transistor is about to turn off because either the supply voltage has stayed (See Datasheet)", 11 ENOUT (hiz) "Open Collector Enable Output. The ENOUT pin goes high impedance when the voltage at the OUT pin is within 0.5V of VCC and 3V above GND, indicating the external MOSFET is fully on. The state of the pin is latched until the (See Datasheet)", 12 TMR (in) "Fault Timer Input. Connect a capacitor between this pin and ground to set the times for early fault warning, fault turn-off, and cool down periods. The current charging up this pin during fault conditions depends on the (See Datasheet)"